# Altium footprint library 350761-4.PcbLib: 1 footprints
Each footprint in its own frame and in the unit in brackets; x right, y up, seen from the top. Pads: shape width x height; smd on the part's side, far side on the other; paste and mask are expansions set on the pad; w line width, h text height; cw(c..) or ccw(c..) is an arc to the next point about the centre after c.
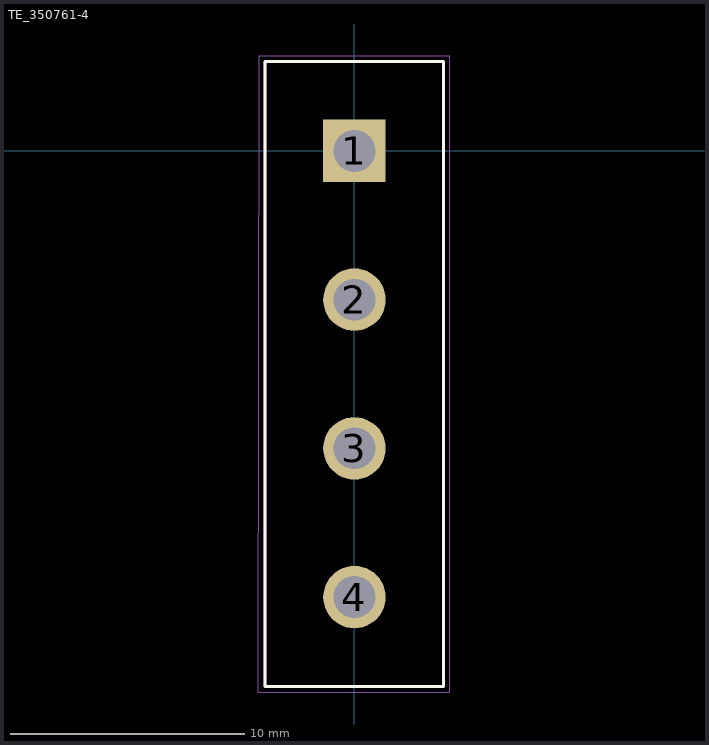
[diagram p0: the footprint, top view; thin cyan lines are the x and y axes]

## TE_350761-4 [mm]
pads (4):
  rect 2.67x2.67 hole 1.78: 1(0,0)
  round 2.67 hole 1.78: 2(0,-6.35) 3(0,-12.7) 4(0,-19.05)
Top Overlay:
  lines w0.127: -3.81,-22.86 3.81,-22.86 3.81,3.81 -3.81,3.81 -3.81,-22.86
Mechanical 13:
  lines w0.127: -3.81,-22.86 3.81,-22.86 3.81,3.81 -3.81,3.81 -3.81,-22.86
Mechanical 15:
  lines w0.05: -4.1,-23.11 -4.06,4.06 4.06,4.06 4.06,-23.11 -4.1,-23.11
3D body "350761-4.stp": height 14.83, standoff -3.54, extent -5.08,-25.4 3.81,6.35